# Altium footprint library baterries_and_accus.PcbLib: 18 footprints (part 2 of 2)
Each footprint in its own frame and in the unit in brackets; x right, y up, seen from the top. Pads: shape width x height; smd on the part's side, far side on the other; paste and mask are expansions set on the pad; w line width, h text height; cw(c..) or ccw(c..) is an arc to the next point about the centre after c.
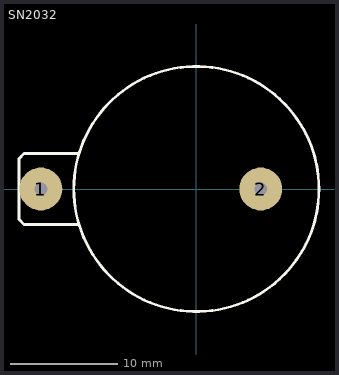
[diagram p1: the footprints below, top view; thin cyan lines are the x and y axes]

## SN2032 [mm]
pads (2):
  round 4 hole 1.2: 1(-14.5,0) 2(6,0)
Top Overlay:
  circle w0.254: c0,0 r11.43
  lines w0.254: -10.947,-3.302 -16.053,-3.302 -16.535,-2.819 -16.535,2.819 -16.053,3.302 -10.947,3.302
3D body "User Library-CR 2032 (Battery Holder).step": height 7.05, standoff -3.5, extent -17.925,-11.275 10.775,11.475

## XP01101ES [mm]
height 5.5
3D body: height 5.5, standoff 0, extent 0,0 30.5,12